# Altium footprint library clamp5p5m08.PcbLib: 1 footprints
Each footprint in its own frame and in the unit in brackets; x right, y up, seen from the top. Pads: shape width x height; smd on the part's side, far side on the other; paste and mask are expansions set on the pad; w line width, h text height; cw(c..) or ccw(c..) is an arc to the next point about the centre after c.
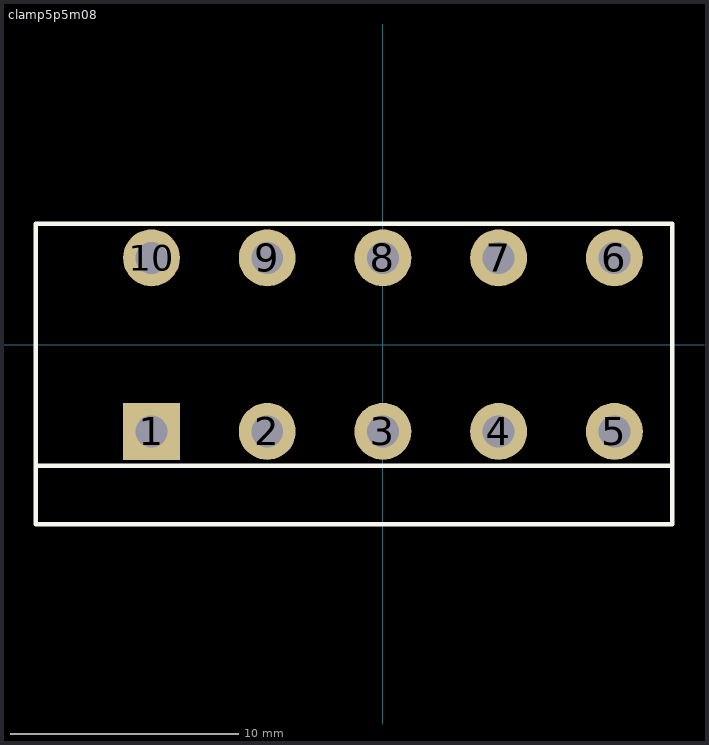
[diagram p0: the footprint, top view; thin cyan lines are the x and y axes]

## clamp5p5m08 [mm] "Clamp 5P 5.08mm"
height 14.1
pads (10):
  rect 2.5x2.5 hole 1.4: 1(-10.16,-3.81)
  round 2.5 hole 1.4: 2(-5.08,-3.81) 3(0,-3.81) 4(5.08,-3.81) 5(10.16,-3.81) 6(10.16,3.81) 7(5.08,3.81) 8(0,3.81) 9(-5.08,3.81) 10(-10.16,3.81)
Top Overlay:
  lines w0.2: -15.24,-5.31 12.7,-5.31 ; -15.24,-7.89 12.7,-7.89 12.7,5.31 -15.24,5.31 -15.24,-7.89
3D body: height 14.1, standoff 0, extent -15.113,-5.207 12.573,5.207